# EAGLE library part SAM3U (library BaseApp)
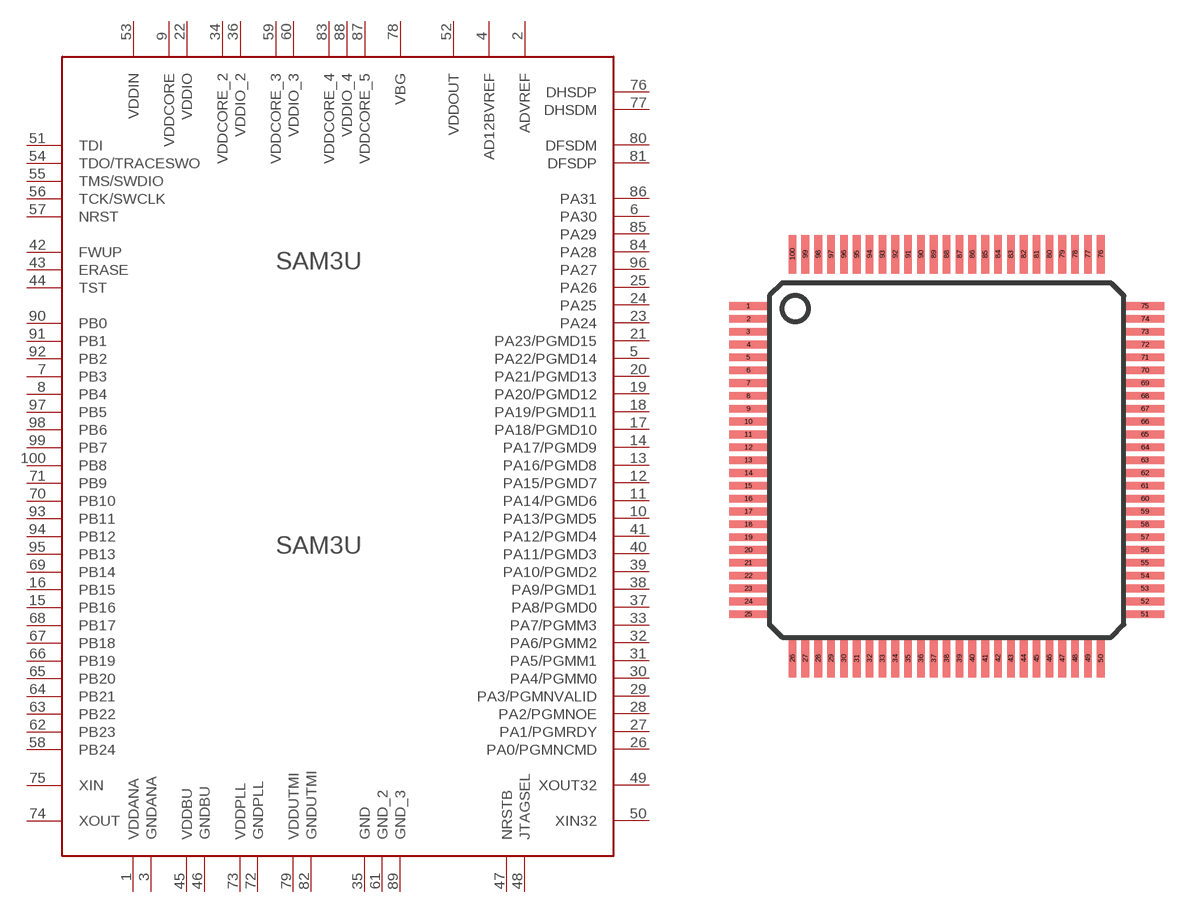
[diagram p18: symbol with the pads of 100LQFP; footprint 100LQFP]

Designator prefix SAM3U

## SAM3U"  [100LQFP]
1  VDDANA
2  ADVREF
3  GNDANA
4  AD12BVREF
5  PA22/PGMD14
6  PA30
7  PB3
8  PB4
9  VDDCORE
10  PA13/PGMD5
11  PA14/PGMD6
12  PA15/PGMD7
13  PA16/PGMD8
14  PA17/PGMD9
15  PB16
16  PB15
17  PA18/PGMD10
18  PA19/PGMD11
19  PA20/PGMD12
20  PA21/PGMD13
21  PA23/PGMD15
22  VDDIO
23  PA24
24  PA25
25  PA26
26  PA0/PGMNCMD
27  PA1/PGMRDY
28  PA2/PGMNOE
29  PA3/PGMNVALID
30  PA4/PGMM0
31  PA5/PGMM1
32  PA6/PGMM2
33  PA7/PGMM3
34  VDDCORE_2
35  GND
36  VDDIO_2
37  PA8/PGMD0
38  PA9/PGMD1
39  PA10/PGMD2
40  PA11/PGMD3
41  PA12/PGMD4
42  FWUP
43  ERASE
44  TST
45  VDDBU
46  GNDBU
47  NRSTB
48  JTAGSEL
49  XOUT32
50  XIN32
51  TDI
52  VDDOUT
53  VDDIN
54  TDO/TRACESWO
55  TMS/SWDIO
56  TCK/SWCLK
57  NRST
58  PB24
59  VDDCORE_3
60  VDDIO_3
61  GND_2
62  PB23
63  PB22
64  PB21
65  PB20
66  PB19
67  PB18
68  PB17
69  PB14
70  PB10
71  PB9
72  GNDPLL
73  VDDPLL
74  XOUT
75  XIN
76  DHSDP
77  DHSDM
78  VBG
79  VDDUTMI
80  DFSDM
81  DFSDP
82  GNDUTMI
83  VDDCORE_4
84  PA28
85  PA29
86  PA31
87  VDDCORE_5
88  VDDIO_4
89  GND_3
90  PB0
91  PB1
92  PB2
93  PB11
94  PB12
95  PB13
96  PA27
97  PB5
98  PB6
99  PB7
100  PB8

## Footprint 100LQFP (pad centres in mm)
smd 1.5 x 0.3: 1 -6.18,9.08; 2 -6.18,8.58; 3 -6.18,8.08; 4 -6.18,7.58; 5 -6.18,7.08; 6 -6.18,6.58; 7 -6.18,6.08; 8 -6.18,5.58; 9 -6.18,5.08; 10 -6.18,4.58; 11 -6.18,4.08; 12 -6.18,3.58; 13 -6.18,3.08; 14 -6.18,2.58; 15 -6.18,2.08; 16 -6.18,1.58; 17 -6.18,1.08; 18 -6.18,0.58; 19 -6.18,0.08; 20 -6.18,-0.42; 21 -6.18,-0.92; 22 -6.18,-1.42; 23 -6.18,-1.92; 24 -6.18,-2.42; 25 -6.18,-2.92; 51 9.26,-2.92; 52 9.26,-2.42; 53 9.26,-1.92; 54 9.26,-1.42; 55 9.26,-0.92; 56 9.26,-0.42; 57 9.26,0.08; 58 9.26,0.58; 59 9.26,1.08; 60 9.26,1.58; 61 9.26,2.08; 62 9.26,2.58; 63 9.26,3.08; 64 9.26,3.58; 65 9.26,4.08; 66 9.26,4.58; 67 9.26,5.08; 68 9.26,5.58; 69 9.26,6.08; 70 9.26,6.58; 71 9.26,7.08; 72 9.26,7.58; 73 9.26,8.08; 74 9.26,8.58; 75 9.26,9.08
smd 0.3 x 1.5: 26 -4.46,-4.64; 27 -3.96,-4.64; 28 -3.46,-4.64; 29 -2.96,-4.64; 30 -2.46,-4.64; 31 -1.96,-4.64; 32 -1.46,-4.64; 33 -0.96,-4.64; 34 -0.46,-4.64; 35 0.04,-4.64; 36 0.54,-4.64; 37 1.04,-4.64; 38 1.54,-4.64; 39 2.04,-4.64; 40 2.54,-4.64; 41 3.04,-4.64; 42 3.54,-4.64; 43 4.04,-4.64; 44 4.54,-4.64; 45 5.04,-4.64; 46 5.54,-4.64; 47 6.04,-4.64; 48 6.54,-4.64; 49 7.04,-4.64; 50 7.54,-4.64; 76 7.54,11.1; 77 7.04,11.1; 78 6.54,11.1; 79 6.04,11.1; 80 5.54,11.1; 81 5.04,11.1; 82 4.54,11.1; 83 4.04,11.1; 84 3.54,11.1; 85 3.04,11.1; 86 2.54,11.1; 87 2.04,11.1; 88 1.54,11.1; 89 1.04,11.1; 90 0.54,11.1; 91 0.04,11.1; 92 -0.46,11.1; 93 -0.96,11.1; 94 -1.46,11.1; 95 -1.96,11.1; 96 -2.46,11.1; 97 -2.96,11.1; 98 -3.46,11.1; 99 -3.96,11.1; 100 -4.46,11.1